# EAGLE library part XRP7659 (library ICs)
The XRP7659 is a current-mode PWM setup-down (buck) voltage regulator capable of delivering an output current up to 1.5A. A wide 4.5V to 18V input voltage range allows for single supply operation from industry standard 5V, 9.6V and 12V power rails.
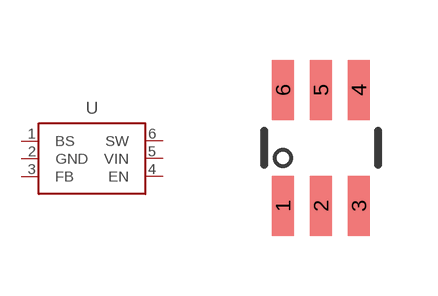
[diagram p9: symbol with the pads of SOT23-6; footprint SOT23-6]

Designator prefix -

## XRP7659SOT23-6  [SOT23-6]
1  BS  in
2  GND  pwr
3  FB  in
4  EN  in
5  VIN  pwr
6  SW  pwr

## Footprint SOT23-6 (pad centres in mm)
smd 0.55 x 1.5: 1 -0.95,-1.45; 2 0,-1.45; 3 0.95,-1.45; 4 0.95,1.45; 5 0,1.45; 6 -0.95,1.45